# EAGLE library part VANHA_CNC_RELE (library wiring_parts)
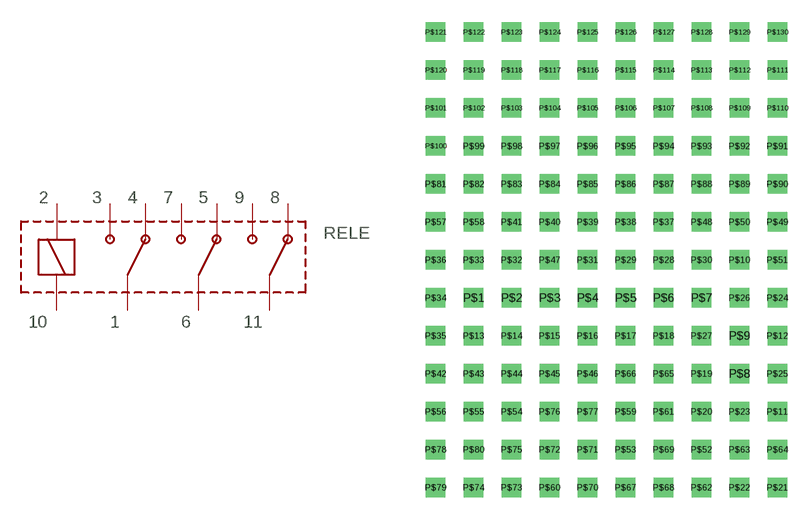
[diagram p0: symbol with the pads of DUMMY; footprint DUMMY]

Designator prefix RELE

## VANHA_CNC_RELE  [DUMMY]
P$1  P$2
P$2  P$3
P$3  P$1
P$4  P$4
P$5  P$5
P$6  P$6
P$7  P$7
P$8  P$8
P$9  P$9
P$10  P$10
P$11  P$11

## Footprint DUMMY (pad centres in mm)
drill 0.8 square: P$1 -6.35,0; P$2 -3.81,0; P$3 -1.27,0; P$4 1.27,0; P$5 3.81,0; P$6 6.35,0; P$7 8.89,0; P$8 11.43,-5.08; P$9 11.43,-2.54; P$10 11.43,2.54; P$11 13.97,-7.62; P$12 13.97,-2.54; P$13 -6.35,-2.54; P$14 -3.81,-2.54; P$15 -1.27,-2.54; P$16 1.27,-2.54; P$17 3.81,-2.54; P$18 6.35,-2.54; P$19 8.89,-5.08; P$20 8.89,-7.62; P$21 13.97,-12.7; P$22 11.43,-12.7; P$23 11.43,-7.62; P$24 13.97,0; P$25 13.97,-5.08; P$26 11.43,0; P$27 8.89,-2.54; P$28 6.35,2.54; P$29 3.81,2.54; P$30 8.89,2.54; P$31 1.27,2.54; P$32 -3.81,2.54; P$33 -6.35,2.54; P$34 -8.89,0; P$35 -8.89,-2.54; P$36 -8.89,2.54; P$37 6.35,5.08; P$38 3.81,5.08; P$39 1.27,5.08; P$40 -1.27,5.08; P$41 -3.81,5.08; P$42 -8.89,-5.08; P$43 -6.35,-5.08; P$44 -3.81,-5.08; P$45 -1.27,-5.08; P$46 1.27,-5.08; P$47 -1.27,2.54; P$48 8.89,5.08; P$49 13.97,5.08; P$50 11.43,5.08; P$51 13.97,2.54; P$52 8.89,-10.16; P$53 3.81,-10.16; P$54 -3.81,-7.62; P$55 -6.35,-7.62; P$56 -8.89,-7.62; P$57 -8.89,5.08; P$58 -6.35,5.08; P$59 3.81,-7.62; P$60 -1.27,-12.7; P$61 6.35,-7.62; P$62 8.89,-12.7; P$63 11.43,-10.16; P$64 13.97,-10.16; P$65 6.35,-5.08; P$66 3.81,-5.08; P$67 3.81,-12.7; P$68 6.35,-12.7; P$69 6.35,-10.16; P$70 1.27,-12.7; P$71 1.27,-10.16; P$72 -1.27,-10.16; P$73 -3.81,-12.7; P$74 -6.35,-12.7; P$75 -3.81,-10.16; P$76 -1.27,-7.62; P$77 1.27,-7.62; P$78 -8.89,-10.16; P$79 -8.89,-12.7; P$80 -6.35,-10.16; P$81 -8.89,7.62; P$82 -6.35,7.62; P$83 -3.81,7.62; P$84 -1.27,7.62; P$85 1.27,7.62; P$86 3.81,7.62; P$87 6.35,7.62; P$88 8.89,7.62; P$89 11.43,7.62; P$90 13.97,7.62; P$91 13.97,10.16; P$92 11.43,10.16; P$93 8.89,10.16; P$94 6.35,10.16; P$95 3.81,10.16; P$96 1.27,10.16; P$97 -1.27,10.16; P$98 -3.81,10.16; P$99 -6.35,10.16; P$100 -8.89,10.16; P$101 -8.89,12.7; P$102 -6.35,12.7; P$103 -3.81,12.7; P$104 -1.27,12.7; P$105 1.27,12.7; P$106 3.81,12.7; P$107 6.35,12.7; P$108 8.89,12.7; P$109 11.43,12.7; P$110 13.97,12.7; P$111 13.97,15.24; P$112 11.43,15.24; P$113 8.89,15.24; P$114 6.35,15.24; P$115 3.81,15.24; P$116 1.27,15.24; P$117 -1.27,15.24; P$118 -3.81,15.24; P$119 -6.35,15.24; P$120 -8.89,15.24; P$121 -8.89,17.78; P$122 -6.35,17.78; P$123 -3.81,17.78; P$124 -1.27,17.78; P$125 1.27,17.78; P$126 3.81,17.78; P$127 6.35,17.78; P$128 8.89,17.78; P$129 11.43,17.78; P$130 13.97,17.78